# Altium footprint library PCB1.PcbLib: 35 footprints (part 3 of 3)
Each footprint in its own frame and in the unit in brackets; x right, y up, seen from the top. Pads: shape width x height; smd on the part's side, far side on the other; paste and mask are expansions set on the pad; w line width, h text height; cw(c..) or ccw(c..) is an arc to the next point about the centre after c.
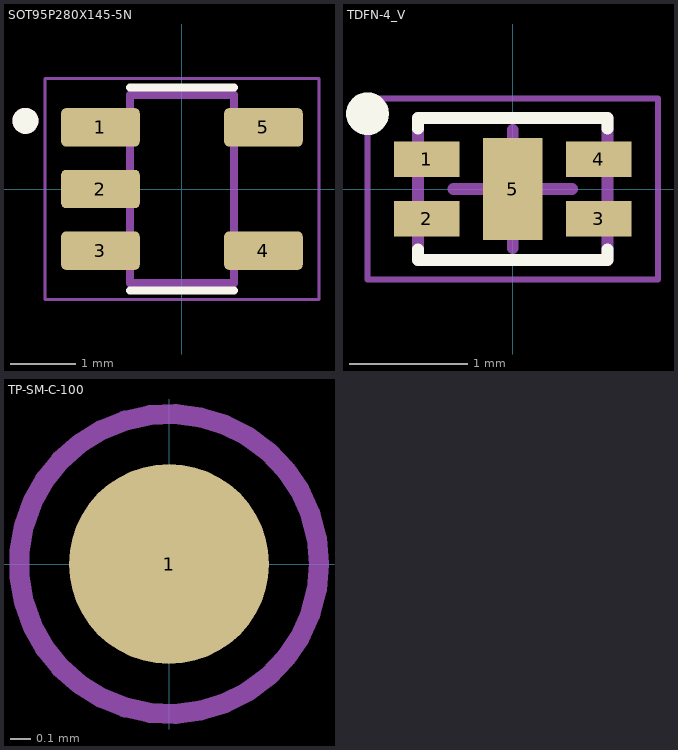
[diagram p2: the footprints below, top view; thin cyan lines are the x and y axes]

## SOT95P280X145-5N [mm]
pads (5):
  rrect25% 1.21x0.59 smd: 1(-1.255,0.95) 2(-1.255,0) 3(-1.255,-0.95) 4(1.255,-0.95) 5(1.255,0.95)
Top Overlay:
  circle w0.2: c-2.41,1.05 r0.1
  lines w0.127: -0.8,-1.565 0.8,-1.565 ; -0.8,1.565 0.8,1.565
Top 3D Body:
  circle w0.2: c-2.41,1.05 r0.1
  lines w0.127: -0.8,-1.45 -0.8,1.45 0.8,1.45 0.8,-1.45 -0.8,-1.45
Top Courtyard:
  lines w0.05: -2.11,-1.7 2.11,-1.7 2.11,1.7 -2.11,1.7 -2.11,-1.7
3D body "step_temp.STEP": height 0.76, standoff -0.69, extent -1.45,-1.4 1.45,1.4

## TDFN-4_V [mm]
pads (5):
  rect 0.55x0.3 smd: 1(-0.725,0.25) 2(-0.725,-0.25) 3(0.725,-0.25) 4(0.725,0.25)
  rect 0.5x0.86 smd: 5(0,0)
Top Overlay:
  circle w0.2: c-1.225,0.635 r0.08
  lines w0.1: -0.8,-0.508 -0.8,-0.6 0.8,-0.6 0.8,-0.508 ; -0.8,0.508 -0.8,0.6 0.8,0.6 0.8,0.508
Mechanical 12:
  lines w0.1: -0.8,-0.6 -0.8,0.6 0.8,0.6 0.8,-0.6 -0.8,-0.6
Top Courtyard:
  lines w0.05: -1.225,-0.762 1.225,-0.762 1.225,0.762 -1.225,0.762 -1.225,-0.762
  lines w0.1: -0.5,0 0.5,0 ; 0,-0.5 0,0.5
3D body "DFN130P160X60-4M.step": height 0.6, standoff 0, extent -0.85,-0.625 0.85,0.625

## TP-SM-C-100 [mm]
pads (1):
  round 1 smd: 1(0,0)
Top Courtyard:
  circle w0.1: c0,0 r0.75